# Altium footprint library Protel 99SE BANKS PCB.PCBLIB: 278 footprints (part 6 of 18)
Each footprint in its own frame and in the unit in brackets; x right, y up, seen from the top. Pads: shape width x height; smd on the part's side, far side on the other; paste and mask are expansions set on the pad; w line width, h text height; cw(c..) or ccw(c..) is an arc to the next point about the centre after c.
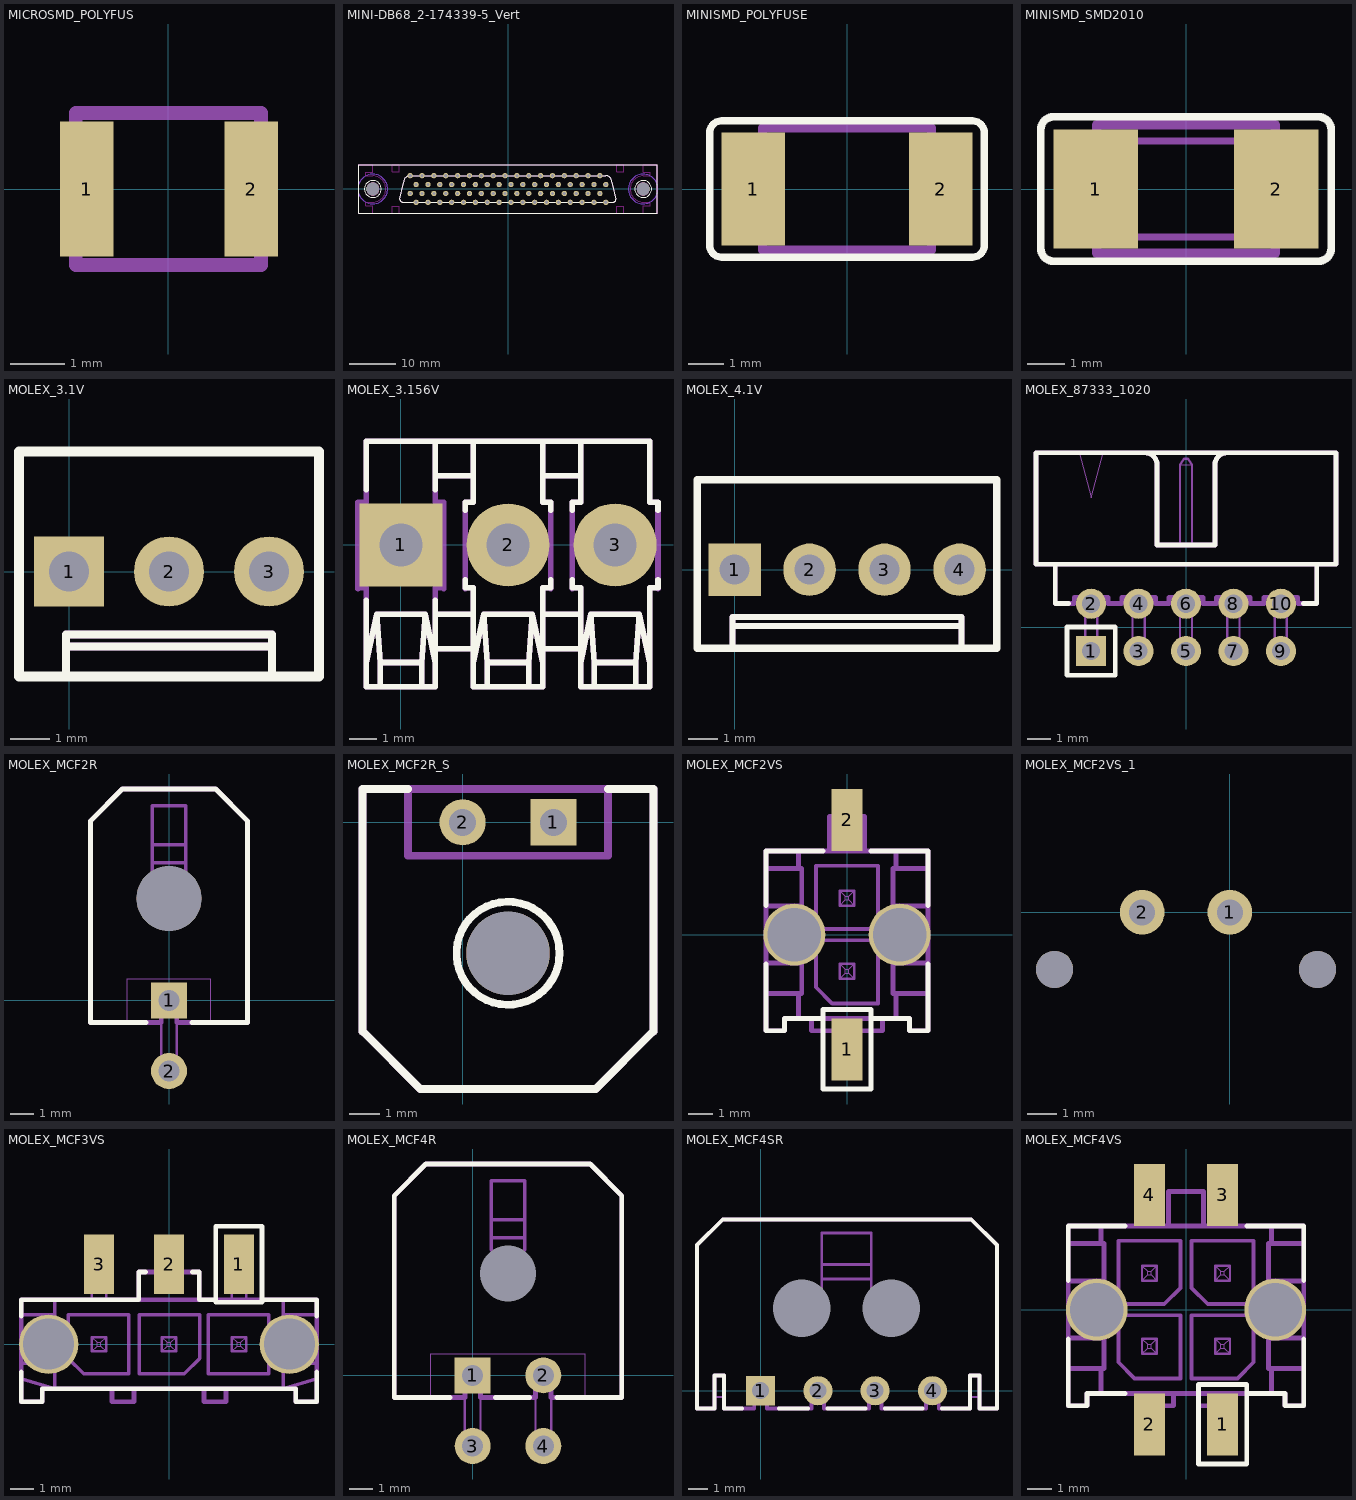
[diagram p5: the footprints below, top view; thin cyan lines are the x and y axes]

## MICROSMD_POLYFUS [mil]
pads (2):
  rect 39x98 smd: 1(-59,0) 2(60,0)
Mechanical3:
  lines w10: -67,-20.23 ccw(c-78.15,-0.12) -67,20 -67,55 67,55 67,20 ; -67,-20 -67,-55 67,-55 67,-20 cw(c78.15,0.12) 67,20.23

## MINI-DB68_2-174339-5_Vert [mil]
pads (70):
  round 45 hole 27: 1(825,-112.5) 2(775,-37.5) 3(725,-112.5) 4(675,-37.5) 5(625,-112.5) 6(575,-37.5) 7(525,-112.5) 8(475,-37.5) 9(425,-112.5) 10(375,-37.5) 11(325,-112.5) 12(275,-37.5) 13(225,-112.5) 14(175,-37.5) 15(125,-112.5) 16(75,-37.5) 17(25,-112.5) 18(-25,-37.5) 19(-75,-112.5) 20(-125,-37.5) 21(-175,-112.5) 22(-225,-37.5) 23(-275,-112.5) 24(-325,-37.5) 25(-375,-112.5) 26(-425,-37.5) 27(-475,-112.5) 28(-525,-37.5) 29(-575,-112.5) 30(-625,-37.5) 31(-675,-112.5) 32(-725,-37.5) 33(-775,-112.5) 34(-825,-37.5) 35(825,37.5) 36(775,112.5) 37(725,37.5) 38(675,112.5) 39(625,37.5) 40(575,112.5) 41(525,37.5) 42(475,112.5) 43(425,37.5) 44(375,112.5) 45(325,37.5) 46(275,112.5) 47(225,37.5) 48(175,112.5) 49(125,37.5) 50(75,112.5) 51(25,37.5) 52(-25,112.5) 53(-75,37.5) 54(-125,112.5) 55(-175,37.5) 56(-225,112.5) 57(-275,37.5) 58(-325,112.5) 59(-375,37.5) 60(-425,112.5) 61(-475,37.5) 62(-525,112.5) 63(-575,37.5) 64(-625,112.5) 65(-675,37.5) 66(-725,112.5) 67(-775,37.5) 68(-825,112.5)
  round 106.3 hole 106.3 unplated: ""(-1139.96,0) ""(1139.96,0)
TopLayer keep-out:
  lines w10: -1139.96,-110.24 ccw(c-1139.96,0) -1139.96,110.24 ; -1139.76,-110.24 -1198.82,-110.24 -1198.82,-139.76 -1139.76,-139.76 -1139.76,-202.76 -1257.87,-202.76 -1257.87,202.76 -1139.76,202.76 -1139.76,139.76 -1198.82,139.76 -1198.82,110.24 -1139.76,110.24 ; 1139.76,-110.24 1198.82,-110.24 1198.82,-139.76 1139.76,-139.76 1139.76,-202.76 1257.87,-202.76 1257.87,202.76 1139.76,202.76 1139.76,139.76 1198.82,139.76 1198.82,110.24 1139.76,110.24 ; 1139.96,-110.24 cw(c1139.96,0) 1139.96,110.24 ; -974.41,-202.76 -974.41,-143.7 -915.35,-143.7 -915.35,-202.76 -974.41,-202.76 ; -974.41,143.7 -974.41,202.76 -915.35,202.76 -915.35,143.7 -974.41,143.7 ; 915.35,-202.76 915.35,-143.7 974.41,-143.7 974.41,-202.76 915.35,-202.76 ; 915.35,143.7 915.35,202.76 974.41,202.76 974.41,143.7 915.35,143.7
BottomLayer keep-out:
  circle w10: c1139.96,0 r125
  circle w10: c-1139.96,0 r125
TopOverlay:
  circle w10: c-1139.96,0 r70.87
  circle w10: c1139.96,0 r70.87
  lines w10: -827.14,112.2 ccw(c-827.14,58.44) -865.16,96.46 -882.48,40.94 -911.42,-86.61 ccw(c-885.83,-86.61) -885.83,-112.21 -0.98,-112.2 ; -825,112.2 0,112.2 ; -1.77,112.2 823.23,112.2 ; -0.79,-112.2 884.06,-112.2 ccw(c884.06,-86.61) 909.65,-86.61 880.71,40.94 863.39,96.46 ccw(c825.37,58.44) 825.37,112.2 ; -1257.87,-202.76 0,-202.76 1257.87,-202.76 1257.87,202.76 -1257.87,202.76 -1257.87,-202.76
Mechanical3:
  circle w10: c1139.96,0 r53.15
  circle w10: c-1139.96,0 r53.15
  lines w10: -1.77,112.2 823.23,112.2 ; -0.98,-112.2 -885.83,-112.2 cw(c-885.83,-86.61) -911.42,-86.61 -882.48,40.94 -865.16,96.46 cw(c-827.14,58.44) -827.14,112.2 ; -0.79,-112.2 884.06,-112.2 ccw(c884.06,-86.61) 909.65,-86.61 880.71,40.94 863.39,96.46 ccw(c825.37,58.44) 825.37,112.2 ; 0,112.2 -825,112.2 ; -827.14,112.2 -825,112.2 ; -827.14,112.2 -825,112.2 ; 823.23,112.2 825.37,112.2 ; 823.23,112.2 825.37,112.2 ; -1257.87,-202.76 -1257.87,202.76 1257.87,202.76 1257.87,-202.76 0,-202.76 -1257.87,-202.76

## MINISMD_POLYFUSE [mil]
pads (2):
  rect 70x124 smd: 1(-103,0) 2(103,0)
TopOverlay:
  lines w8: -151,-62 ccw(c-138,-62) -138,-75 138,-75 ccw(c138,-62) 151,-62 151,62 ccw(c138,62) 138,75 -138,75 ccw(c-138,62) -151,62 -151,-62
Mechanical3:
  lines w10: -93,-20 -93,-67 93,-67 93,-20 ; -93,20 -93,67 93,67 93,20 ; -92.85,-20.12 ccw(c-104,0) -92.85,20.12 ; 92.85,-20.12 cw(c104,0) 92.85,20.12

## MINISMD_SMD2010 [mil]
pads (2):
  rect 88x124 smd: 1(-94,0) 2(94,0)
TopOverlay:
  lines w8: -151,-62 ccw(c-138,-62) -138,-75 138,-75 ccw(c138,-62) 151,-62 151,62 ccw(c138,62) 138,75 -138,75 ccw(c-138,62) -151,62 -151,-62
Mechanical3:
  lines w2: -76,-50 -76,50 ; 76,-50 76,50
  lines w7: -100,-50 100,-50 100,50 -100,50 -100,-50
  lines w10: -93,-20 -93,-67 93,-67 93,-20 ; -93,20 -93,67 93,67 93,20 ; -92.85,-20.12 ccw(c-104,0) -92.85,20.12 ; 92.85,-20.12 cw(c104,0) 92.85,20.12

## MOLEX_3.1V [mil]
pads (3):
  rect 70x70 hole 40: 1(0,0)
  round 70 hole 40: 2(100,0) 3(200,0)
TopOverlay:
  lines w8: -3,-105 -3,-63 203,-63 203,-105 ; -3,-75 203,-75
  lines w10: -50,-105 -50,120 250,120 250,-105 -50,-105
Mechanical3:
  lines w2: -13,-13 -5,-5 ; -13,13 -5,5 ; 13,-13 5,-5 ; 13,13 5,5 ; 87,-13 95,-5 ; 87,13 95,5 ; 113,-13 105,-5 ; 113,13 105,5 ; 187,-13 195,-5 ; 187,13 195,5 ; 213,-13 205,-5 ; 213,13 205,5 ; -5,-5 -5,5 ; -5,-5 5,-5 ; -5,5 5,5 ; 5,-5 5,5 ; 95,-5 95,5 ; 95,-5 105,-5 ; 95,5 105,5 ; 105,-5 105,5 ; 195,-5 195,5 ; 195,-5 205,-5 ; 195,5 205,5 ; 205,-5 205,5
  lines w4: -13,-13 -13,13 13,13 13,-13 -13,-13 ; 87,-13 87,13 113,13 113,-13 87,-13 ; 187,-13 213,-13 213,13 187,13 187,-13
  lines w8: -3,-105 -3,-63 203,-63 203,-105 ; -3,-75 203,-75 ; -50,-105 -50,120 250,120 250,-105 -50,-105

## MOLEX_3.156V [mil]
pads (3):
  rect 120x120 hole 62: 1(0,0)
  round 120 hole 62: 2(155,0) 3(310,0)
TopOverlay:
  lines w8: -50,-170 -35,-100 ; -50,-80 -50,-205 50,-205 50,-80 ; -50,80 -50,150 360,150 360,62 372,62 372,50 ; -30,-205 -30,-170 ; 30,-205 30,-170 ; 50,-170 35,-100 ; 50,-150 105,-150 ; 50,-100 105,-100 ; 50,80 50,150 ; 50,100 105,100 ; 93,-50 93,-62 105,-62 105,-205 205,-205 205,-62 217,-62 217,-50 ; 93,50 93,62 105,62 105,150 ; 105,-170 120,-100 ; 125,-205 125,-170 ; 185,-205 185,-170 ; 205,-170 190,-100 ; 205,-150 260,-150 ; 205,-100 260,-100 ; 205,100 260,100 ; 205,150 205,62 217,62 217,50 ; 248,-50 248,-62 260,-62 260,-205 360,-205 360,-62 372,-62 372,-50 ; 248,50 248,62 260,62 260,150 ; 260,-170 275,-100 ; 280,-205 280,-170 ; 340,-205 340,-170 ; 360,-170 345,-100 ; -35,-100 -30,-170 ; -35,-100 35,-100 ; -30,-170 30,-170 ; 30,-170 35,-100 ; 120,-100 125,-170 ; 120,-100 190,-100 ; 125,-170 185,-170 ; 185,-170 190,-100 ; 275,-100 280,-170 ; 275,-100 345,-100 ; 280,-170 340,-170 ; 340,-170 345,-100
Mechanical3:
  lines w2: -22,-22 -12,-12 ; -22,23 -12,13 ; 23,-22 13,-12 ; 23,23 13,13 ; 133,-22 143,-12 ; 133,23 143,13 ; 178,-22 168,-12 ; 178,23 168,13 ; 288,-22 298,-12 ; 288,23 298,13 ; 333,-22 323,-12 ; 333,23 323,13 ; -12,-12 13,-12 ; -12,-12 -12,13 ; -12,13 13,13 ; 13,-12 13,13 ; 143,-12 168,-12 ; 143,-12 143,13 ; 143,13 168,13 ; 168,-12 168,13 ; 298,-12 323,-12 ; 298,-12 298,13 ; 298,13 323,13 ; 323,-12 323,13
  lines w6: -22,-22 23,-22 23,23 -22,23 -22,-22 ; 133,-22 178,-22 178,23 133,23 133,-22 ; 288,-22 333,-22 333,23 288,23 288,-22
  lines w8: -62,-63 -62,62 -50,62 -50,150 360,150 360,62 372,62 372,-63 ; -62,-62 -50,-62 -50,-205 50,-205 50,-62 62,-62 ; -50,-170 -35,-100 ; -30,-205 -30,-170 ; 30,-205 30,-170 ; 50,-170 35,-100 ; 50,-150 105,-150 ; 50,-100 105,-100 ; 50,100 105,100 ; 50,150 50,62 62,62 62,-63 ; 93,-63 93,62 105,62 105,150 ; 93,-62 105,-62 105,-205 205,-205 205,-62 217,-62 ; 105,-170 120,-100 ; 125,-205 125,-170 ; 185,-205 185,-170 ; 205,-170 190,-100 ; 205,-150 260,-150 ; 205,-100 260,-100 ; 205,100 260,100 ; 205,150 205,62 217,62 217,-63 ; 248,-63 248,62 260,62 260,150 ; 248,-62 260,-62 260,-205 360,-205 360,-62 372,-62 ; 260,-170 275,-100 ; 280,-205 280,-170 ; 340,-205 340,-170 ; 360,-170 345,-100 ; -35,-100 -30,-170 ; -35,-100 35,-100 ; -30,-170 30,-170 ; 30,-170 35,-100 ; 120,-100 125,-170 ; 120,-100 190,-100 ; 125,-170 185,-170 ; 185,-170 190,-100 ; 275,-100 280,-170 ; 275,-100 345,-100 ; 280,-170 340,-170 ; 340,-170 345,-100

## MOLEX_4.1V [mil]
pads (4):
  rect 70x70 hole 40: 1(0,0)
  round 70 hole 40: 2(100,0) 3(200,0) 4(300,0)
TopOverlay:
  lines w8: -3,-105 -3,-63 303,-63 303,-105 ; -3,-75 303,-75
  lines w10: -50,-105 -50,120 350,120 350,-105 -50,-105
Mechanical3:
  lines w2: -13,-13 -5,-5 ; -13,13 -5,5 ; 13,-13 5,-5 ; 13,13 5,5 ; 87,-13 95,-5 ; 87,13 95,5 ; 113,-13 105,-5 ; 113,13 105,5 ; 187,-13 195,-5 ; 187,13 195,5 ; 213,-13 205,-5 ; 213,13 205,5 ; 287,-13 295,-5 ; 287,13 295,5 ; 313,-13 305,-5 ; 313,13 305,5 ; -5,-5 -5,5 ; -5,-5 5,-5 ; -5,5 5,5 ; 5,-5 5,5 ; 95,-5 95,5 ; 95,-5 105,-5 ; 95,5 105,5 ; 105,-5 105,5 ; 195,-5 195,5 ; 195,-5 205,-5 ; 195,5 205,5 ; 205,-5 205,5 ; 295,-5 295,5 ; 295,-5 305,-5 ; 295,5 305,5 ; 305,-5 305,5
  lines w4: -13,-13 -13,13 13,13 13,-13 -13,-13 ; 87,-13 87,13 113,13 113,-13 87,-13 ; 187,-13 213,-13 213,13 187,13 187,-13 ; 287,-13 287,13 313,13 313,-13 287,-13
  lines w8: -3,-105 -3,-63 303,-63 303,-105 ; -3,-75 303,-75 ; -50,-105 -50,120 350,120 350,-105 -50,-105

## MOLEX_87333_1020 [mm]
pads (10):
  rect 1.27x1.27 hole 0.762: 1(-4,-1)
  round 1.27 hole 0.762: 2(-4,1) 3(-2,-1) 4(-2,1) 5(0,-1) 6(0,1) 7(2,-1) 8(2,1) 9(4,-1) 10(4,1)
TopOverlay:
  lines w0.203: -5.512,2.667 -5.512,1.016 -4.953,1.016 ; -1.727,7.366 cw(c-1.727,6.858) -1.219,6.858 -1.219,3.48 1.219,3.48 1.219,6.858 cw(c1.727,6.858) 1.727,7.366 ; 4.953,1.016 5.512,1.016 5.512,2.667 ; -6.325,2.667 6.325,2.667 6.325,7.366 -6.325,7.366 -6.325,2.667 ; -5.016,-2.016 -5.016,0.016 -2.984,0.016 -2.984,-2.016 -5.016,-2.016
Mechanical3:
  lines w0.051: -4.496,7.366 -3.988,5.461 -3.48,7.366 ; -0.254,6.858 0.254,6.858
  lines w0.102: -0.254,3.47 -0.254,6.858 -0.076,7.112 0.076,7.112 0.254,6.858 0.254,3.47 ; -4.254,-1.254 -3.746,-1.254 -3.746,1.254 -4.254,1.254 -4.254,-1.254 ; -2.254,-1.254 -1.746,-1.254 -1.746,1.254 -2.254,1.254 -2.254,-1.254 ; -0.254,-1.254 0.254,-1.254 0.254,1.254 -0.254,1.254 -0.254,-1.254 ; 1.746,-1.254 2.254,-1.254 2.254,1.254 1.746,1.254 1.746,-1.254 ; 3.746,-1.254 4.254,-1.254 4.254,1.254 3.746,1.254 3.746,-1.254
  lines w0.203: -5.512,2.667 -5.512,1.016 -4.711,1.016 -4.711,1.27 -3.289,1.27 -3.289,1.016 -2.711,1.016 -2.711,1.27 -1.289,1.27 -1.289,1.016 -0.711,1.016 -0.711,1.27 0.711,1.27 0.711,1.016 1.289,1.016 1.289,1.27 2.711,1.27 2.711,1.016 3.289,1.016 3.289,1.27 4.711,1.27 4.711,1.016 5.512,1.016 5.512,2.667 ; -1.727,7.366 cw(c-1.727,6.858) -1.219,6.858 -1.219,3.48 1.219,3.48 1.219,6.858 cw(c1.727,6.858) 1.727,7.366 ; -6.325,2.667 -6.325,7.366 6.325,7.366 6.325,2.667 -6.325,2.667

## MOLEX_MCF2R [mil]
pads (3):
  rect 60x60 hole 35: 1(0,0)
  round 60 hole 35: 2(0,-118)
  round 108.27 hole 108.27 unplated: ""(0,170)
TopOverlay:
  lines w8: -38,-37 -131,-37 -131,300 -78,353 78,353 131,300 131,-37 38,-37
Mechanical3:
  lines w2: -70,-37 -70,36 70,36 70,-37
  lines w4: -13,-37 -13,-131 13,-131 13,-37
  lines w6: -28,210 -28,230 ; -28,260 28,260 ; 28,210 28,230 ; -28,230 -28,325 28,325 28,230 ; -28,230 28,230
  lines w8: -131,-37 -131,300 -78,353 78,353 131,300 131,-37 13,-37 13,15 -13,15 -13,-37 -131,-37

## MOLEX_MCF2R_S [mil]
pads (3):
  rect 60x60 hole 35: 1(118.11,0)
  round 60 hole 35: 2(0.11,0)
  round 108.27 hole 108.27 unplated: ""(59.06,-170.08)
TopOverlay:
  circle w10: c59.06,-170.08 r66.93
  lines w10: -70.87,43.31 -129.92,43.31 -129.92,-271.65 -55.12,-346.46 173.23,-346.46 248.03,-271.65 248.03,43.31 188.98,43.31
Mechanical3:
  lines w10: -70.87,43.31 -70.87,-43.31 188.98,-43.31 188.98,43.31 ; -129.92,-271.65 -129.92,43.31 248.03,43.31 248.03,-271.65 173.23,-346.46 -55.12,-346.46 -129.92,-271.65

## MOLEX_MCF2VS [mil]
pads (4):
  rect 50x100 smd: 1(0,-185) 2(0,185)
  round 100 hole 86: ""(-85,0) ""(85,0)
TopOverlay:
  lines w8: -131,-47 -131,-155 -101,-155 -101,-135 -39,-135 ; -131,47 -131,135 -39,135 ; 39,-135 101,-135 101,-155 131,-155 131,-47 ; 39,135 131,135 131,47 ; -39,-249 39,-249 39,-121 -39,-121 -39,-249
Mechanical3:
  lines w2: -12,-71 -3,-62 ; -12,-47 -3,-56 ; -12,47 -3,56 ; -12,71 -3,62 ; 12,-71 3,-62 ; 12,-47 3,-56 ; 12,47 3,56 ; 12,71 3,62 ; -3,-62 -3,-56 ; -3,-62 3,-62 ; -3,-56 3,-56 ; -3,56 -3,62 ; -3,56 3,56 ; -3,62 3,62 ; 3,-62 3,-56 ; 3,56 3,62
  lines w4: -12,-135 -12,-195 ; -12,191 -12,195 ; 12,-135 12,-195 ; 12,191 12,195 ; -12,-195 12,-195 ; -12,-195 -3,-215 3,-215 12,-195 ; -12,195 12,195 ; -12,195 -3,215 3,215 12,195 ; -12,-71 -12,-47 12,-47 12,-71 -12,-71 ; -12,47 -12,71 12,71 12,47 -12,47
  lines w6: -131,-23 -106,-23 ; -131,23 -106,23 ; -106,-46 -106,46 ; 106,-46 106,46 ; 106,-23 131,-23 ; 106,23 131,23 ; -50,-85 -24,-111 50,-111 50,-9 -50,-9 -50,-85 ; -50,9 50,9 50,111 -50,111 -50,9
  lines w8: -131,-95 -78,-95 ; -131,-46 -73,-46 ; -131,46 -73,46 ; -131,107 -78,107 ; -78,-135 -78,-95 ; -78,135 -78,107 ; -57,-135 -57,-155 -20,-155 -20,-135 ; -28,135 -28,191 28,191 28,135 ; 20,-135 20,-155 57,-155 57,-135 ; 74,-46 131,-46 ; 74,46 131,46 ; 79,-135 79,-95 ; 79,135 79,107 ; 131,-95 79,-95 ; 131,107 79,107 ; -78,-95 -73,-95 -73,107 -78,107 ; 79,-95 74,-95 74,107 79,107 ; -131,-155 -131,135 131,135 131,-155 101,-155 101,-135 -101,-135 -101,-155 -131,-155

## MOLEX_MCF2VS_1 [mil] "MICROFIT 43650-0215/0216/0217"
height 390
pads (4):
  round 60 hole 35: 1(0,0) 2(-118,0)
  round 50 hole 50 unplated: ""(-236,-77) ""(118,-77)

## MOLEX_MCF3VS [mil]
pads (5):
  rect 50x100 smd: 1(118,135) 2(0,135) 3(-118,135)
  round 100 hole 86: ""(-203,0) ""(203,0)
TopOverlay:
  lines w8: -249,-47 -249,-97 -214,-97 -214,-75 214,-75 214,-97 249,-97 249,-47 ; -249,47 -249,75 -51,75 -51,122 -39,122 ; 39,122 51,122 51,75 79,75 ; 157,75 249,75 249,47 ; 79,71 79,199 157,199 157,71 79,71
Mechanical3:
  lines w2: -130,-12 -121,-3 ; -130,12 -121,3 ; -106,-12 -115,-3 ; -106,12 -115,3 ; -12,-12 -3,-3 ; -12,12 -3,3 ; 12,-12 3,-3 ; 12,12 3,3 ; 106,-12 115,-3 ; 106,12 115,3 ; 130,-12 121,-3 ; 130,12 121,3 ; -121,-3 -115,-3 ; -121,-3 -121,3 ; -121,3 -115,3 ; -115,-3 -115,3 ; -3,-3 -3,3 ; -3,-3 3,-3 ; -3,3 3,3 ; 3,-3 3,3 ; 115,-3 115,3 ; 115,-3 121,-3 ; 115,3 121,3 ; 121,-3 121,3
  lines w4: -130,75 -130,145 ; -106,75 -106,145 ; -12,122 -12,145 ; 12,122 12,145 ; 106,75 106,145 ; 130,75 130,145 ; -130,145 -106,145 ; -130,145 -121,165 -115,165 -106,145 ; -12,145 12,145 ; -12,145 -3,165 3,165 12,145 ; 106,145 130,145 ; 106,145 115,165 121,165 130,145 ; -130,-12 -106,-12 -106,12 -130,12 -130,-12 ; -12,-12 -12,12 12,12 12,-12 -12,-12 ; 106,-12 106,12 130,12 130,-12 106,-12
  lines w6: -249,-58 -193,-75 -193,75 ; -249,-32 -193,-32 ; -249,50 -193,50 ; 193,-32 249,-32 ; 193,50 249,50 ; 193,75 193,-75 249,-58 ; -170,-24 -170,50 -68,50 -68,-50 -144,-50 -170,-24 ; -50,-50 -50,50 52,50 52,-24 26,-50 -50,-50 ; 66,-50 66,50 168,50 168,-50 66,-50
  lines w8: -96,-75 -96,-97 -59,-97 -59,-75 ; -51,75 -51,122 51,122 51,75 ; 59,-75 59,-97 96,-97 96,-75 ; -249,-97 -214,-97 -214,-75 214,-75 214,-97 249,-97 249,75 -249,75 -249,-97

## MOLEX_MCF4R [mil]
pads (5):
  rect 60x60 hole 35: 1(0,0)
  round 60 hole 35: 2(118,0) 3(0,-118) 4(118,-118)
  round 30 hole 93 unplated: ""(59,170)
TopOverlay:
  lines w8: -38,-37 -131,-37 -131,300 -78,353 196,353 249,300 249,-37 141,-37 ; 38,-37 95,-37
Mechanical3:
  lines w2: -70,-37 -70,36 188,36 188,-37
  lines w4: -13,-37 -13,-131 13,-131 13,-37 ; 105,-37 105,-131 131,-131 131,-37
  lines w6: 31,210 31,230 ; 31,260 87,260 ; 87,210 87,230 ; 31,230 31,325 87,325 87,230 ; 31,230 87,230
  lines w8: -131,-37 -131,300 -78,353 196,353 249,300 249,-37 131,-37 131,15 105,15 105,-37 13,-37 13,15 -13,15 -13,-37 -131,-37

## MOLEX_MCF4SR [mil]
pads (6):
  rect 60x60 hole 35: 1(0,0)
  round 60 hole 35: 2(118,0) 3(236,0) 4(354,0)
  round 30 hole 118 unplated: ""(85,170) ""(269,170)
TopOverlay:
  lines w8: -38,-37 -75,-37 -75,31 -95,31 -95,-37 -131,-37 -131,300 -78,353 434,353 487,300 487,-37 451,-37 451,31 431,31 431,-37 374,-37 ; 38,-37 98,-37 ; 138,-37 216,-37 ; 256,-37 334,-37
Mechanical3:
  lines w4: -95,-13 -75,-13 ; -13,-13 13,-13 ; 105,-13 131,-13 ; 223,-13 249,-13 ; 341,-13 367,-13 ; 431,-13 451,-13
  lines w6: 126,210 126,230 ; 126,260 228,260 ; 228,210 228,230 ; 126,230 126,325 228,325 228,230 ; 126,230 228,230
  lines w8: -131,-37 -131,300 -78,353 434,353 487,300 487,-37 451,-37 451,31 431,31 431,-37 367,-37 367,15 341,15 341,-37 249,-37 249,15 223,15 223,-37 131,-37 131,15 105,15 105,-37 13,-37 13,15 -13,15 -13,-37 -75,-37 -75,31 -95,31 -95,-37 -131,-37

## MOLEX_MCF4VS [mil]
pads (6):
  rect 50x100 smd: 1(59,-185) 2(-59,-185) 3(59,185) 4(-59,185)
  round 100 hole 86: ""(-144,0) ""(144,0)
TopOverlay:
  lines w8: -190,-47 -190,-155 -160,-155 -160,-135 -98,-135 ; -190,47 -190,135 -98,135 ; 98,-135 160,-135 160,-155 190,-155 190,-47 ; 98,135 190,135 190,47 ; 20,-249 98,-249 98,-121 20,-121 20,-249
Mechanical3:
  lines w2: -71,-71 -62,-62 ; -71,-47 -62,-56 ; -71,47 -62,56 ; -71,71 -62,62 ; -47,-71 -56,-62 ; -47,-47 -56,-56 ; -47,47 -56,56 ; -47,71 -56,62 ; 47,-71 56,-62 ; 47,-47 56,-56 ; 47,47 56,56 ; 47,71 56,62 ; 71,-71 62,-62 ; 71,-47 62,-56 ; 71,47 62,56 ; 71,71 62,62 ; -62,-62 -62,-56 ; -62,-62 -56,-62 ; -62,-56 -56,-56 ; -62,56 -56,56 ; -62,56 -62,62 ; -62,62 -56,62 ; -56,-62 -56,-56 ; -56,56 -56,62 ; 56,-62 62,-62 ; 56,-62 56,-56 ; 56,-56 62,-56 ; 56,56 56,62 ; 56,56 62,56 ; 56,62 62,62 ; 62,-62 62,-56 ; 62,56 62,62
  lines w4: -71,-135 -71,-195 ; -71,135 -71,195 ; -47,-155 -47,-195 ; -47,135 -47,195 ; 47,-155 47,-195 ; 47,135 47,195 ; 71,-135 71,-195 ; 71,135 71,195 ; -71,-195 -62,-215 -56,-215 -47,-195 ; -71,-195 -47,-195 ; -71,195 -62,215 -56,215 -47,195 ; -71,195 -47,195 ; 47,-195 56,-215 62,-215 71,-195 ; 47,-195 71,-195 ; 47,195 56,215 62,215 71,195 ; 47,195 71,195 ; -71,-71 -71,-47 -47,-47 -47,-71 -71,-71 ; -71,47 -47,47 -47,71 -71,71 -71,47 ; 47,-71 71,-71 71,-47 47,-47 47,-71 ; 47,47 47,71 71,71 71,47 47,47
  lines w6: -190,-23 -165,-23 ; -190,23 -165,23 ; -165,-46 -165,46 ; 165,-46 165,46 ; 165,-23 190,-23 ; 165,23 190,23 ; -109,-85 -83,-111 -9,-111 -9,-9 -109,-9 -109,-85 ; -109,9 -35,9 -9,35 -9,111 -109,111 -109,9 ; 9,-111 83,-111 109,-85 109,-9 9,-9 9,-111 ; 9,35 35,9 109,9 109,111 9,111 9,35
  lines w8: -190,-95 -137,-95 ; -190,-46 -132,-46 ; -190,46 -132,46 ; -190,107 -137,107 ; -137,-135 -137,-95 ; -137,135 -137,107 ; -57,-135 -57,-155 -20,-155 -20,-135 ; -28,135 -28,191 28,191 28,135 ; 20,-135 20,-155 57,-155 57,-135 ; 133,-46 190,-46 ; 133,46 190,46 ; 138,-135 138,-95 ; 138,135 138,107 ; 190,-95 138,-95 ; 190,107 138,107 ; -137,-95 -132,-95 -132,107 -137,107 ; 138,-95 133,-95 133,107 138,107 ; -190,-155 -190,135 190,135 190,-155 160,-155 160,-135 -160,-135 -160,-155 -190,-155